# Altium schematic symbol library BC856ALT1.Schlib: 1 symbol
Pins are listed as number, name and electrical type; pins without a type are passive.

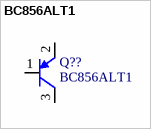
[diagram p0: symbol BC856ALT1]

## BC856ALT1
designator Q??
General Purpose Transistor PNP Silicon; Package Information: Latest Revision: 1997; Published: 29-Sep-2000; Revision: 17-Jul-2002: Re-released for DXP Platform.; Datasheet: Latest Revision: 1997; Package Reference: 318-08; Publisher: Altium Limited
footprint SO-G3/C2.5
simulation model BC856ALT1 (PNP)
signal-integrity model BC856ALT1
pins: 1 B, 2 E, 3 C